# EAGLE library part NTE912 (library _common.v1)
NPN TRANSISTOR ARRAY
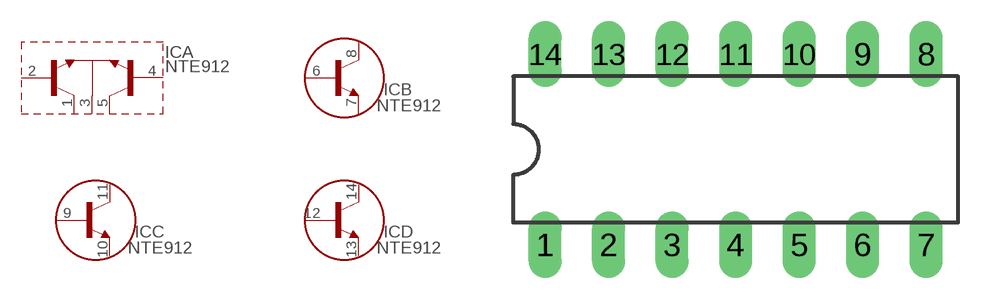
[diagram p1: symbol with the pads of DIL14; footprint DIL14]

Designator prefix IC; gates A=NPN-DUAL B=NPN C=NPN D=NPN

## NTE912P  [DIL14]
1  A:C1  pas
2  A:B1  pas
3  A:E  pas
4  A:B3  pas
5  A:C3  pas
6  B:B  pas
7  B:E  pas
8  B:C  pas
9  C:B  pas
10  C:E  pas
11  C:C  pas
12  D:B  pas
13  D:E  pas
14  D:C  pas

## Footprint DIL14 (pad centres in mm)
Dual In Line Package
drill 0.813 long: 1 -7.62,-3.81; 2 -5.08,-3.81; 3 -2.54,-3.81; 4 0,-3.81; 5 2.54,-3.81; 6 5.08,-3.81; 7 7.62,-3.81; 8 7.62,3.81; 9 5.08,3.81; 10 2.54,3.81; 11 0,3.81; 12 -2.54,3.81; 13 -5.08,3.81; 14 -7.62,3.81